# EAGLE library part DS08 (library misc)
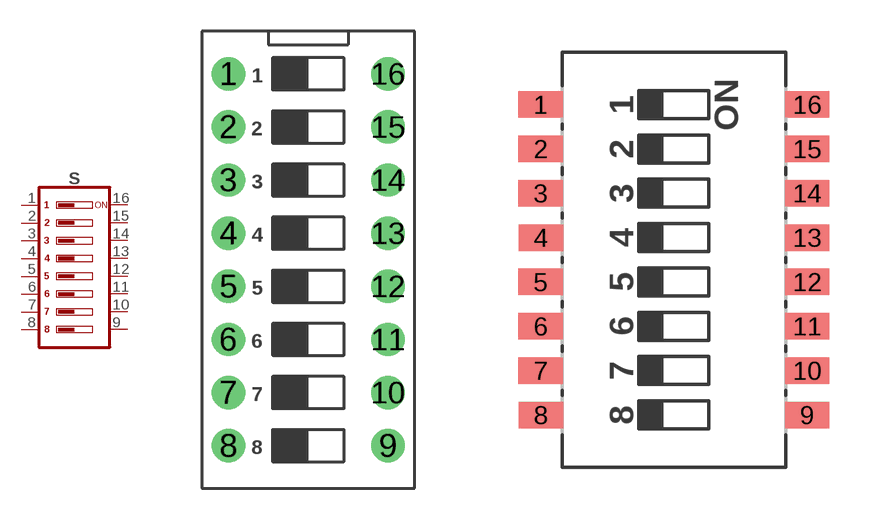
[diagram p67: symbol with the pads of DS-08; footprints DS-08, KLS7-KPR-08]

Designator prefix S

## DS08-TH (LINK: https://www.chipdip.ru/product0/8481164952; MANF: MULTICOMP; MANF#: MCDS08)  [DS-08]
1  1  pas
2  2  pas
3  3  pas
4  4  pas
5  5  pas
6  6  pas
7  7  pas
8  8  pas
9  9  pas
10  10  pas
11  11  pas
12  12  pas
13  13  pas
14  14  pas
15  15  pas
16  16  pas

## DS08-SMD (LCSC#: C3293147; MANF: KLS electronic co ltd; MANF#: L-KLS7-KPR-08-N-11)  [KLS7-KPR-08]
Pads as for DS-08

## DS08-RA (MANF: Connfly electronic; MANF#: DS1040-08RT)  [DS-08RT]
Pads as for DS-08

## Footprint DS-08 (pad centres in mm)
DIL/CODE SWITCH Mors distributor Buerklin, 17G558 3D model <https://grabcad.com/library/toggle-switches-dip-2-54mm-1>
drill 0.9 pad 1.6: 1 -3.81,8.89; 2 -3.81,6.35; 3 -3.81,3.81; 4 -3.81,1.27; 5 -3.81,-1.27; 6 -3.81,-3.81; 7 -3.81,-6.35; 8 -3.81,-8.89; 9 3.81,-8.89; 10 3.81,-6.35; 11 3.81,-3.81; 12 3.81,-1.27; 13 3.81,1.27; 14 3.81,3.81; 15 3.81,6.35; 16 3.81,8.89

## Footprint KLS7-KPR-08 (pad centres in mm)
Datasheet <http://www.klsele.com/admin/product_upload/20160706152714KLS7-KPR.pdf>
smd 1.27 x 0.76: 1 -3.815,4.445; 2 -3.815,3.175; 3 -3.815,1.905; 4 -3.805,0.635; 5 -3.815,-0.635; 6 -3.815,-1.905; 7 -3.815,-3.175; 8 -3.805,-4.445; 9 3.815,-4.445; 10 3.815,-3.175; 11 3.815,-1.905; 12 3.815,-0.635; 13 3.815,0.635; 14 3.815,1.905; 15 3.815,3.175; 16 3.815,4.445

## Footprint DS-08RT (pad centres in mm)
Datasheet <https://static.chipdip.ru/lib/974/DOC000974669.pdf>
drill 0.8 pad 1.3: 1 -8.89,-3.81; 2 -6.35,-3.81; 3 -3.81,-3.81; 4 -1.27,-3.81; 5 1.27,-3.81; 6 3.81,-3.81; 7 6.35,-3.81; 8 8.89,-3.81; 9 8.89,3.81; 10 6.35,3.81; 11 3.81,3.81; 12 1.27,3.81; 13 -1.27,3.81; 14 -3.81,3.81; 15 -6.35,3.81; 16 -8.89,3.81